# Altium schematic symbol library Diode_Laser.Schlib: 1 symbol
Pins are listed as number, name and electrical type; pins without a type are passive.

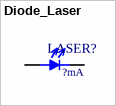
[diagram p0: symbol Diode_Laser]

## Diode_Laser
designator LASER?  Rated Current: ?mA
footprint LED_Laser Mount
pins: 1, 2